# Altium integrated library Cypress USB Low-Speed.IntLib: 40 symbols (part 3 of 3)
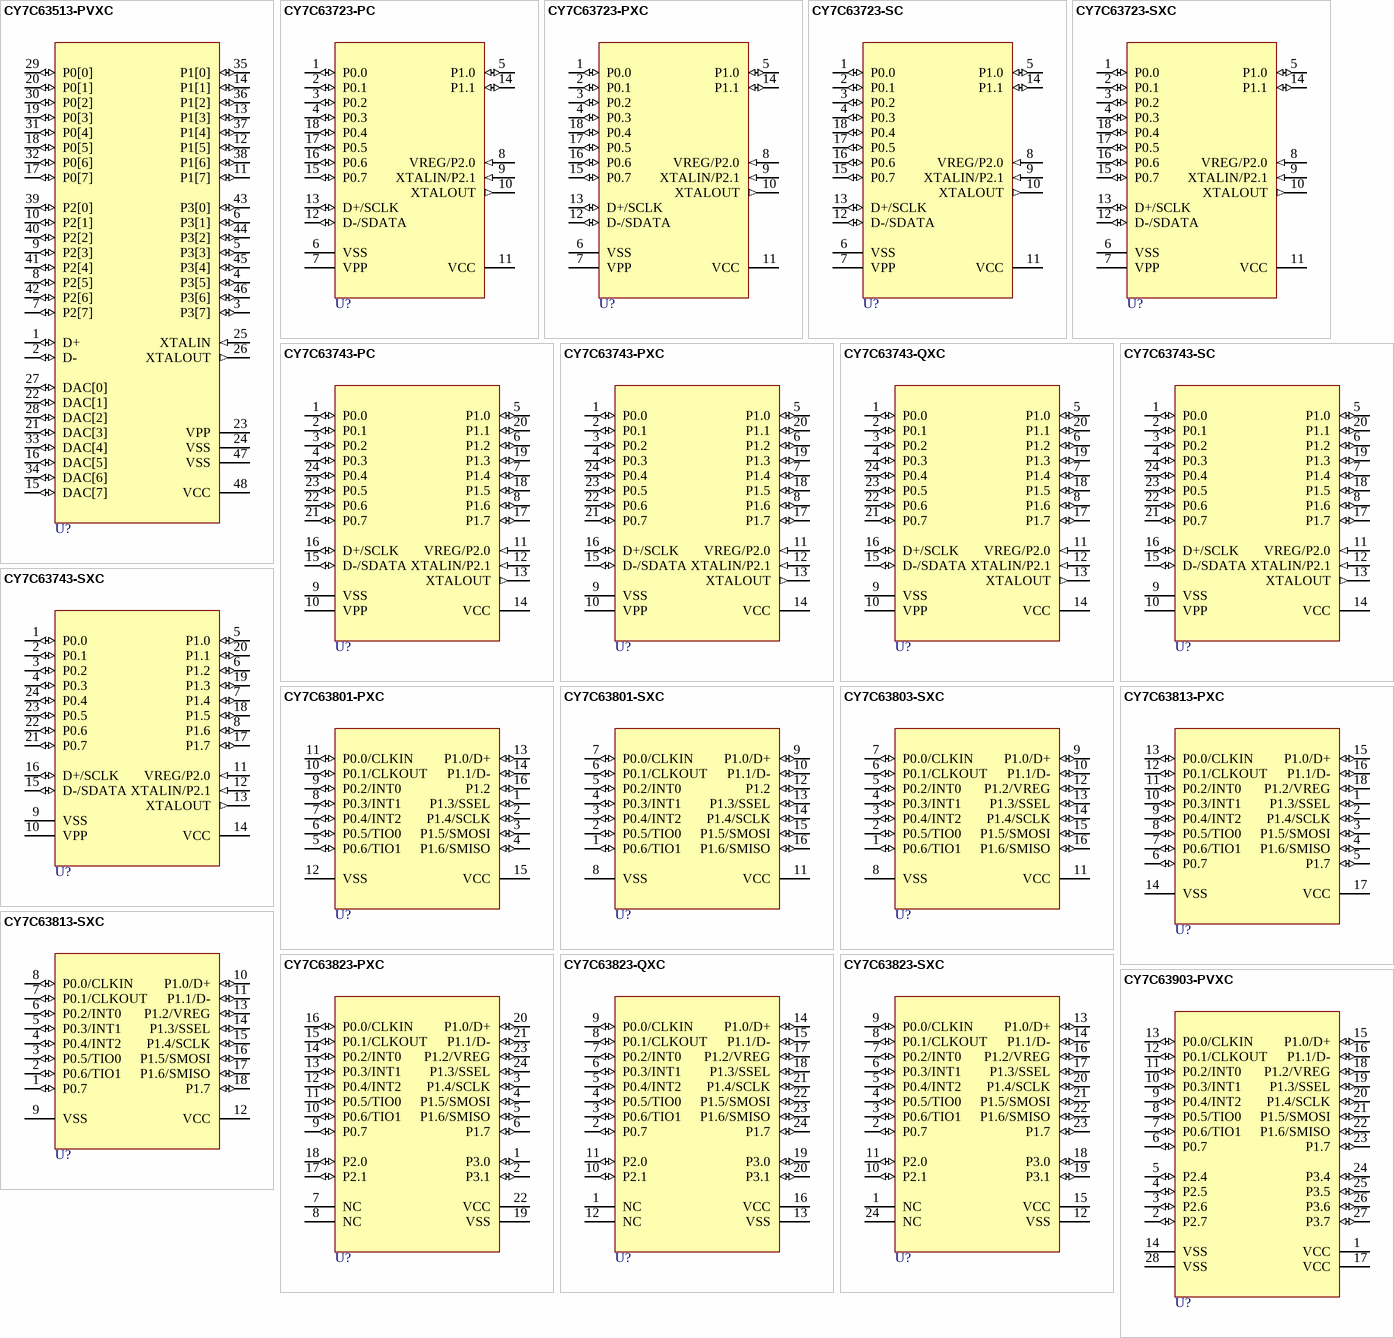
[diagram p4: symbols CY7C63513-PVXC to CY7C63903-PVXC]

## CY7C63743-SXC
designator U?
enCoRe, Low-Speed Combination USB and PS/2 Peripheral Controller, 8KB EPROM, 24-Pin SOIC,Commercial Grade, Pb-free; Published: 6-Oct-2005; LatestRevisionDate: 13-Apr-2006; LatestRevisionNote: IPC-7351 Footprint Added.; DatasheetVersion: rev.B, Sep -2004; PackageVersion: Mar-2005; PackageReference: S13; Publisher: Altium Limited; PackageDescription: 24-Pin Molded Small Outline Integrated Circuit 1.27 mm Pitch; Code_JEDEC: MO-119; ComponentLink1Description: Manufacturer Link; ComponentLink1URL: http://www.cypress.com/; ComponentLink2Description: Datasheet; ComponentLink2URL: http://www.cypress.com/portal/server.pt/gateway/PTARGS_0_2_1524_209_259_43/http%3B/sjapp20.mis.cypress.com%3B7001/publishedcontent/publish/design_resources/datasheets/contents/cy7c637xx_5.pdf
footprint S13_N (SOIC, 24-Leads, Body 15.4x7.5mm, Pitch 1.27mm, IPC Medium Density)
footprint S13_L (SOIC, 24-Leads, Body 15.4x7.5mm, Pitch 1.27mm, IPC High Density)
footprint S13_M (SOIC, 24-Leads, Body 15.4x7.5mm, Pitch 1.27mm, IPC Low Density)
pins: 1 P0.0 (io) "GPIO Port 0 capable of sinking up to 50 mA/pin, or sinking controlled low or high programmable current. Can also source 2 mA current, provide a resistive pull-up, or serve as a high-impedance input. Provides input to Capture Timer A.", 2 P0.1 (io) "GPIO Port 0 capable of sinking up to 50 mA/pin, or sinking controlled low or high programmable current. Can also source 2 mA current, provide a resistive pull-up, or serve as a high-impedance input. Provides input to Capture Timer B.", 3 P0.2 (io) "GPIO Port 0 capable of sinking up to 50 mA/pin, or sinking controlled low or high programmable current. Can also source 2 mA current, provide a resistive pull-up, or serve as a high-impedance input.", 4 P0.3 (io) "GPIO Port 0 capable of sinking up to 50 mA/pin, or sinking controlled low or high programmable current. Can also source 2 mA current, provide a resistive pull-up, or serve as a high-impedance input.", 5 P1.0 (io) "IO Port 1 capable of sinking up to 50 mA/pin, or sinking controlled low or high programmable current. Can also source 2 mA current, provide a resistive pull-up, or serve as a high-impedance input.", 6 P1.2 (io) "IO Port 1 capable of sinking up to 50 mA/pin, or sinking controlled low or high programmable current. Can also source 2 mA current, provide a resistive pull-up, or serve as a high-impedance input.", 7 P1.4 (io) "IO Port 1 capable of sinking up to 50 mA/pin, or sinking controlled low or high programmable current. Can also source 2 mA current, provide a resistive pull-up, or serve as a high-impedance input.", 8 P1.6 (io) "IO Port 1 capable of sinking up to 50 mA/pin, or sinking controlled low or high programmable current. Can also source 2 mA current, provide a resistive pull-up, or serve as a high-impedance input.", 9 VSS (power) "Ground", 10 VPP (power) "Programming voltage supply, ground for normal operation", 11 VREG/P2.0 (in) "Voltage supply for 1.3-kOhm USB pull-up resistor (3.3V nominal). Also serves as P2.0 input.", 12 XTALIN/P2.1 (in) "6-MHz ceramic resonator or external clock input, or P2.1 input", 13 XTALOUT (out) "6-MHz ceramic resonator return pin or internal oscillator output", 14 VCC (power) "Voltage supply", 15 D-/SDATA (io) "USB differential data line or PS/2 data signal", 16 D+/SCLK (io) "USB differential data line or PS/2 clock signal", 17 P1.7 (io) "IO Port 1 capable of sinking up to 50 mA/pin, or sinking controlled low or high programmable current. Can also source 2 mA current, provide a resistive pull-up, or serve as a high-impedance input.", 18 P1.5 (io) "IO Port 1 capable of sinking up to 50 mA/pin, or sinking controlled low or high programmable current. Can also source 2 mA current, provide a resistive pull-up, or serve as a high-impedance input.", 19 P1.3 (io) "IO Port 1 capable of sinking up to 50 mA/pin, or sinking controlled low or high programmable current. Can also source 2 mA current, provide a resistive pull-up, or serve as a high-impedance input.", 20 P1.1 (io) "IO Port 1 capable of sinking up to 50 mA/pin, or sinking controlled low or high programmable current. Can also source 2 mA current, provide a resistive pull-up, or serve as a high-impedance input.", 21 P0.7 (io) "GPIO Port 0 capable of sinking up to 50 mA/pin, or sinking controlled low or high programmable current. Can also source 2 mA current, provide a resistive pull-up, or serve as a high-impedance input.", 22 P0.6 (io) "GPIO Port 0 capable of sinking up to 50 mA/pin, or sinking controlled low or high programmable current. Can also source 2 mA current, provide a resistive pull-up, or serve as a high-impedance input.", 23 P0.5 (io) "GPIO Port 0 capable of sinking up to 50 mA/pin, or sinking controlled low or high programmable current. Can also source 2 mA current, provide a resistive pull-up, or serve as a high-impedance input.", 24 P0.4 (io) "GPIO Port 0 capable of sinking up to 50 mA/pin, or sinking controlled low or high programmable current. Can also source 2 mA current, provide a resistive pull-up, or serve as a high-impedance input."

## CY7C63801-PXC
designator U?
enCoRe II, Low-Speed USB Peripheral Controller, 4KB FLASH, 16-Pin PDIP, Commercial Grade, Pb-free; Published: 6-Oct-2005; DatasheetVersion: rev.D, Mar-2005; PackageVersion: Mar-2005; PackageReference: P1; Publisher: Altium Limited; PackageDescription: DIP, Molded, 16-Pin, Row Spacing 7.62 mm, Pitch 2.54 mm; ComponentLink1Description: Manufacturer Link; ComponentLink1URL: http://www.cypress.com/; ComponentLink2Description: Datasheet; ComponentLink2URL: http://www.cypress.com/portal/server.pt/gateway/PTARGS_0_2_1524_209_259_43/http%3B/sjapp20.mis.cypress.com%3B7001/publishedcontent/publish/design_resources/datasheets/contents/cy7c638xx_5.pdf
footprint P1 (DIP, 16-Leads, Row Spacing 7.62mm, Pitch 2.54mm, Body 19.18x6.35mm)
pins: 1 P1.3/SSEL (io) "GPIO Port 1 bit 3 - Configured individually. Alternate function is SSEL signal of the SPI bus TTL voltage thresholds", 2 P1.4/SCLK (io) "GPIO Port 1 bit 4 - Configured individually. Alternate function is SCLK signal of the SPI bus TTL voltage thresholds", 3 P1.5/SMOSI (io) "GPIO Port 1 bit 5 - Configured individually. Alternate function is SMOSI signal of the SPI bus TTL voltage thresholds", 4 P1.6/SMISO (io) "GPIO Port 1 bit 6 - Configured individually. Alternate function is SMISO signal of the SPI bus TTL voltage thresholds", 5 P0.6/TIO1 (io) "GPIO port 0 bit 6 - Configured individually Alternate function Timer capture inputs or Timer output TIO1", 6 P0.5/TIO0 (io) "GPIO port 0 bit 5 - Configured individually Alternate function Timer capture inputs or Timer output TIO0", 7 P0.4/INT2 (io) "GPIO port 0 bit 4 - Configured individually Optional rising edge interrupt INT2", 8 P0.3/INT1 (io) "GPIO port 0 bit 3 - Configured individually Optional rising edge interrupt INT1", 9 P0.2/INT0 (io) "GPIO port 0 bit 2 - Configured individually Optional rising edge interrupt INT0", 10 P0.1/CLKOUT (io) "GPIO Port 0 bit 1 - Configured individually. Oscillator output when configured as Clock Out.", 11 P0.0/CLKIN (io) "GPIO Port 0 bit 0 - Configured individually. Oscillator input when configured as Clock In.", 12 VSS (power) "Ground", 13 P1.0/D+ (io) "GPIO Port 1 bit 0 / USB D+", 14 P1.1/D- (io) "GPIO Port 1 bit 1 / USB D-", 15 VCC (power) "Power", 16 P1.2 (io) "GPIO Port 1 bit 2 - Configured individually."

## CY7C63801-SXC
designator U?
enCoRe II, Low-Speed USB Peripheral Controller, 4KB FLASH, 16-Pin SOIC, Commercial Grade, Pb-free; Published: 6-Oct-2005; LatestRevisionDate: 13-Apr-2006; LatestRevisionNote: IPC-7351 Footprint Added.; DatasheetVersion: rev.D, Mar-2005; PackageVersion: Mar-2005; PackageReference: S16.15; Publisher: Altium Limited; PackageDescription: 16-Pin Small Outline Integrated Circuit 1.27 mm Pitch; Code_JEDEC: MS-012; ComponentLink1Description: Manufacturer Link; ComponentLink1URL: http://www.cypress.com/; ComponentLink2Description: Datasheet; ComponentLink2URL: http://www.cypress.com/portal/server.pt/gateway/PTARGS_0_2_1524_209_259_43/http%3B/sjapp20.mis.cypress.com%3B7001/publishedcontent/publish/design_resources/datasheets/contents/cy7c638xx_5.pdf
footprint S16.15_N (SOIC, 16-Leads, Body 9.9x3.9mm, Pitch 1.27mm, IPC Medium Density)
footprint S16.15_L (SOIC, 16-Leads, Body 9.9x3.9mm, Pitch 1.27mm, IPC High Density)
footprint S16.15_M (SOIC, 16-Leads, Body 9.9x3.9mm, Pitch 1.27mm, IPC Low Density)
pins: 1 P0.6/TIO1 (io) "GPIO port 0 bit 6 - Configured individually Alternate function Timer capture inputs or Timer output TIO1", 2 P0.5/TIO0 (io) "GPIO port 0 bit 5 - Configured individually Alternate function Timer capture inputs or Timer output TIO0", 3 P0.4/INT2 (io) "GPIO port 0 bit 4 - Configured individually Optional rising edge interrupt INT2", 4 P0.3/INT1 (io) "GPIO port 0 bit 3 - Configured individually Optional rising edge interrupt INT1", 5 P0.2/INT0 (io) "GPIO port 0 bit 2 - Configured individually Optional rising edge interrupt INT0", 6 P0.1/CLKOUT (io) "GPIO Port 0 bit 1 - Configured individually. Oscillator output when configured as Clock Out.", 7 P0.0/CLKIN (io) "GPIO Port 0 bit 0 - Configured individually. Oscillator input when configured as Clock In.", 8 VSS (power) "Ground", 9 P1.0/D+ (io) "GPIO Port 1 bit 0 / USB D+", 10 P1.1/D- (io) "GPIO Port 1 bit 1 / USB D-", 11 VCC (power) "Power", 12 P1.2 (io) "GPIO Port 1 bit 2 - Configured individually.", 13 P1.3/SSEL (io) "GPIO Port 1 bit 3 - Configured individually. Alternate function is SSEL signal of the SPI bus TTL voltage thresholds", 14 P1.4/SCLK (io) "GPIO Port 1 bit 4 - Configured individually. Alternate function is SCLK signal of the SPI bus TTL voltage thresholds", 15 P1.5/SMOSI (io) "GPIO Port 1 bit 5 - Configured individually. Alternate function is SMOSI signal of the SPI bus TTL voltage thresholds", 16 P1.6/SMISO (io) "GPIO Port 1 bit 6 - Configured individually. Alternate function is SMISO signal of the SPI bus TTL voltage thresholds"

## CY7C63803-SXC
designator U?
enCoRe II, Low-Speed USB Peripheral Controller, 8KB FLASH, 16-Pin SOIC, Commercial Grade, Pb-free; Published: 6-Oct-2005; LatestRevisionDate: 13-Apr-2006; LatestRevisionNote: IPC-7351 Footprint Added.; DatasheetVersion: rev.D, Mar-2005; PackageVersion: Mar-2005; PackageReference: S16.15; Publisher: Altium Limited; PackageDescription: 16-Pin Small Outline Integrated Circuit 1.27 mm Pitch; Code_JEDEC: MS-012; ComponentLink1Description: Manufacturer Link; ComponentLink1URL: http://www.cypress.com/; ComponentLink2Description: Datasheet; ComponentLink2URL: http://www.cypress.com/portal/server.pt/gateway/PTARGS_0_2_1524_209_259_43/http%3B/sjapp20.mis.cypress.com%3B7001/publishedcontent/publish/design_resources/datasheets/contents/cy7c638xx_5.pdf
footprint S16.15_N (SOIC, 16-Leads, Body 9.9x3.9mm, Pitch 1.27mm, IPC Medium Density)
footprint S16.15_L (SOIC, 16-Leads, Body 9.9x3.9mm, Pitch 1.27mm, IPC High Density)
footprint S16.15_M (SOIC, 16-Leads, Body 9.9x3.9mm, Pitch 1.27mm, IPC Low Density)
pins: 1 P0.6/TIO1 (io) "GPIO port 0 bit 6 - Configured individually Alternate function Timer capture inputs or Timer output TIO1", 2 P0.5/TIO0 (io) "GPIO port 0 bit 5 - Configured individually Alternate function Timer capture inputs or Timer output TIO0", 3 P0.4/INT2 (io) "GPIO port 0 bit 4 - Configured individually Optional rising edge interrupt INT2", 4 P0.3/INT1 (io) "GPIO port 0 bit 3 - Configured individually Optional rising edge interrupt INT1", 5 P0.2/INT0 (io) "GPIO port 0 bit 2 - Configured individually Optional rising edge interrupt INT0", 6 P0.1/CLKOUT (io) "GPIO Port 0 bit 1 - Configured individually. Oscillator output when configured as Clock Out.", 7 P0.0/CLKIN (io) "GPIO Port 0 bit 0 - Configured individually. Oscillator input when configured as Clock In.", 8 VSS (power) "Ground", 9 P1.0/D+ (io) "GPIO Port 1 bit 0 / USB D+", 10 P1.1/D- (io) "GPIO Port 1 bit 1 / USB D-", 11 VCC (power) "Power", 12 P1.2/VREG (io) "GPIO Port 1 bit 2 - Configured individually. 3.3V if regulator is enabled.", 13 P1.3/SSEL (io) "GPIO Port 1 bit 3 - Configured individually. Alternate function is SSEL signal of the SPI bus TTL voltage thresholds", 14 P1.4/SCLK (io) "GPIO Port 1 bit 4 - Configured individually. Alternate function is SCLK signal of the SPI bus TTL voltage thresholds", 15 P1.5/SMOSI (io) "GPIO Port 1 bit 5 - Configured individually. Alternate function is SMOSI signal of the SPI bus TTL voltage thresholds", 16 P1.6/SMISO (io) "GPIO Port 1 bit 6 - Configured individually. Alternate function is SMISO signal of the SPI bus TTL voltage thresholds"

## CY7C63813-PXC
designator U?
enCoRe II, Low-Speed USB Peripheral Controller, 8KB FLASH, 18-Pin PDIP, Commercial Grade, Pb-free; Published: 6-Oct-2005; DatasheetVersion: rev.D, Mar-2005; PackageVersion: Mar-2005; PackageReference: P3; Publisher: Altium Limited; PackageDescription: DIP, Molded, 18-Pin, Row Spacing 7.62 mm, Pitch 2.54 mm; ComponentLink1Description: Manufacturer Link; ComponentLink1URL: http://www.cypress.com/; ComponentLink2Description: Datasheet; ComponentLink2URL: http://www.cypress.com/portal/server.pt/gateway/PTARGS_0_2_1524_209_259_43/http%3B/sjapp20.mis.cypress.com%3B7001/publishedcontent/publish/design_resources/datasheets/contents/cy7c638xx_5.pdf
footprint P3 (DIP, 18-Leads, Row Spacing 7.62mm, Pitch 2.54mm, Body 22.73x6.48mm)
pins: 1 P1.3/SSEL (io) "GPIO Port 1 bit 3 - Configured individually. Alternate function is SSEL signal of the SPI bus TTL voltage thresholds", 2 P1.4/SCLK (io) "GPIO Port 1 bit 4 - Configured individually. Alternate function is SCLK signal of the SPI bus TTL voltage thresholds", 3 P1.5/SMOSI (io) "GPIO Port 1 bit 5 - Configured individually. Alternate function is SMOSI signal of the SPI bus TTL voltage thresholds", 4 P1.6/SMISO (io) "GPIO Port 1 bit 6 - Configured individually. Alternate function is SMISO signal of the SPI bus TTL voltage thresholds", 5 P1.7 (io) "GPIO Port 1 bit 7 - Configured individually. TTL voltage threshold.", 6 P0.7 (io) "GPIO port 0 bit 7 - Configured individually", 7 P0.6/TIO1 (io) "GPIO port 0 bit 6 - Configured individually Alternate function Timer capture inputs or Timer output TIO1", 8 P0.5/TIO0 (io) "GPIO port 0 bit 5 - Configured individually Alternate function Timer capture inputs or Timer output TIO0", 9 P0.4/INT2 (io) "GPIO port 0 bit 4 - Configured individually Optional rising edge interrupt INT2", 10 P0.3/INT1 (io) "GPIO port 0 bit 3 - Configured individually Optional rising edge interrupt INT1", 11 P0.2/INT0 (io) "GPIO port 0 bit 2 - Configured individually Optional rising edge interrupt INT0", 12 P0.1/CLKOUT (io) "GPIO Port 0 bit 1 - Configured individually. Oscillator output when configured as Clock Out.", 13 P0.0/CLKIN (io) "GPIO Port 0 bit 0 - Configured individually. Oscillator input when configured as Clock In.", 14 VSS (power) "Ground", 15 P1.0/D+ (io) "GPIO Port 1 bit 0 / USB D+", 16 P1.1/D- (io) "GPIO Port 1 bit 1 / USB D-", 17 VCC (power) "Power", 18 P1.2/VREG (io) "GPIO Port 1 bit 2 - Configured individually. 3.3V if regulator is enabled. (The 3.3V regulator is not available in the CY7C63310 and CY7C63801.)"

## CY7C63813-SXC
designator U?
enCoRe II, Low-Speed USB Peripheral Controller, 8KB FLASH, 18-Pin SOIC, Commercial Grade, Pb-free; Published: 6-Oct-2005; LatestRevisionDate: 13-Apr-2006; LatestRevisionNote: IPC-7351 Footprint Added.; DatasheetVersion: rev.D, Mar-2005; PackageVersion: Mar-2005; PackageReference: S3; Publisher: Altium Limited; PackageDescription: 18-Pin Small Outline Integrated Circuit 1.27 mm Pitch; Code_JEDEC: MO-119; ComponentLink1Description: Manufacturer Link; ComponentLink1URL: http://www.cypress.com/; ComponentLink2Description: Datasheet; ComponentLink2URL: http://www.cypress.com/portal/server.pt/gateway/PTARGS_0_2_1524_209_259_43/http%3B/sjapp20.mis.cypress.com%3B7001/publishedcontent/publish/design_resources/datasheets/contents/cy7c638xx_5.pdf
footprint S3_N (SOIC, 18-Leads, Body 11.6x7.5mm, Pitch 1.27mm, IPC Medium Density)
footprint S3_L (SOIC, 18-Leads, Body 11.6x7.5mm, Pitch 1.27mm, IPC High Density)
footprint S3_M (SOIC, 18-Leads, Body 11.6x7.5mm, Pitch 1.27mm, IPC Low Density)
pins: 1 P0.7 (io) "GPIO port 0 bit 7 - Configured individually", 2 P0.6/TIO1 (io) "GPIO port 0 bit 6 - Configured individually Alternate function Timer capture inputs or Timer output TIO1", 3 P0.5/TIO0 (io) "GPIO port 0 bit 5 - Configured individually Alternate function Timer capture inputs or Timer output TIO0", 4 P0.4/INT2 (io) "GPIO port 0 bit 4 - Configured individually Optional rising edge interrupt INT2", 5 P0.3/INT1 (io) "GPIO port 0 bit 3 - Configured individually Optional rising edge interrupt INT1", 6 P0.2/INT0 (io) "GPIO port 0 bit 2 - Configured individually Optional rising edge interrupt INT0", 7 P0.1/CLKOUT (io) "GPIO Port 0 bit 1 - Configured individually. Oscillator output when configured as Clock Out.", 8 P0.0/CLKIN (io) "GPIO Port 0 bit 0 - Configured individually. Oscillator input when configured as Clock In.", 9 VSS (power) "Ground", 10 P1.0/D+ (io) "GPIO Port 1 bit 0 / USB D+", 11 P1.1/D- (io) "GPIO Port 1 bit 1 / USB D-", 12 VCC (power) "Power", 13 P1.2/VREG (io) "GPIO Port 1 bit 2 - Configured individually. 3.3V if regulator is enabled.", 14 P1.3/SSEL (io) "GPIO Port 1 bit 3 - Configured individually. Alternate function is SSEL signal of the SPI bus TTL voltage thresholds", 15 P1.4/SCLK (io) "GPIO Port 1 bit 4 - Configured individually. Alternate function is SCLK signal of the SPI bus TTL voltage thresholds", 16 P1.5/SMOSI (io) "GPIO Port 1 bit 5 - Configured individually. Alternate function is SMOSI signal of the SPI bus TTL voltage thresholds", 17 P1.6/SMISO (io) "GPIO Port 1 bit 6 - Configured individually. Alternate function is SMISO signal of the SPI bus TTL voltage thresholds", 18 P1.7 (io) "GPIO Port 1 bit 7 - Configured individually. TTL voltage threshold."

## CY7C63823-PXC
designator U?
enCoRe II, Low-Speed USB Peripheral Controller, 8KB FLASH, 24-Pin PDIP, Commercial Grade, Pb-free; Published: 6-Oct-2005; DatasheetVersion: rev.D, Mar-2005; PackageVersion: Mar-2005; PackageReference: P13; Publisher: Altium Limited; PackageDescription: DIP, Molded, 24-Pin, Row Spacing 7.62 mm, Pitch 2.54 mm; ComponentLink1Description: Manufacturer Link; ComponentLink1URL: http://www.cypress.com/; ComponentLink2Description: Datasheet; ComponentLink2URL: http://www.cypress.com/portal/server.pt/gateway/PTARGS_0_2_1524_209_259_43/http%3B/sjapp20.mis.cypress.com%3B7001/publishedcontent/publish/design_resources/datasheets/contents/cy7c638xx_5.pdf
footprint P13 (DIP, 24-Leads, Row Spacing 7.62mm, Pitch 2.54mm, Body 31.75x6.6mm)
pins: 1 P3.0 (io) "GPIO Port 3 bit 0", 2 P3.1 (io) "GPIO Port 3 bit 1", 3 P1.4/SCLK (io) "GPIO Port 1 bit 4 - Configured individually. Alternate function is SCLK signal of the SPI bus TTL voltage thresholds", 4 P1.5/SMOSI (io) "GPIO Port 1 bit 5 - Configured individually. Alternate function is SMOSI signal of the SPI bus TTL voltage thresholds", 5 P1.6/SMISO (io) "GPIO Port 1 bit 6 - Configured individually. Alternate function is SMISO signal of the SPI bus TTL voltage thresholds", 6 P1.7 (io) "GPIO Port 1 bit 7 - Configured individually. TTL voltage threshold.", 7 NC "No connect", 8 NC "No connect", 9 P0.7 (io) "GPIO port 0 bit 7 - Configured individually", 10 P0.6/TIO1 (io) "GPIO port 0 bit 6 - Configured individually Alternate function Timer capture inputs or Timer output TIO1", 11 P0.5/TIO0 (io) "GPIO port 0 bit 5 - Configured individually Alternate function Timer capture inputs or Timer output TIO0", 12 P0.4/INT2 (io) "GPIO port 0 bit 4 - Configured individually Optional rising edge interrupt INT2", 13 P0.3/INT1 (io) "GPIO port 0 bit 3 - Configured individually Optional rising edge interrupt INT1", 14 P0.2/INT0 (io) "GPIO port 0 bit 2 - Configured individually Optional rising edge interrupt INT0", 15 P0.1/CLKOUT (io) "GPIO Port 0 bit 1 - Configured individually. Oscillator output when configured as Clock Out.", 16 P0.0/CLKIN (io) "GPIO Port 0 bit 0 - Configured individually. Oscillator input when configured as Clock In.", 17 P2.1 (io) "GPIO Port 2 bit 1", 18 P2.0 (io) "GPIO Port 2 bit 0", 19 VSS (power) "Ground", 20 P1.0/D+ (io) "GPIO Port 1 bit 0 / USB D+", 21 P1.1/D- (io) "GPIO Port 1 bit 1 / USB D-", 22 VCC (power) "Power", 23 P1.2/VREG (io) "GPIO Port 1 bit 2 - Configured individually. 3.3V if regulator is enabled.", 24 P1.3/SSEL (io) "GPIO Port 1 bit 3 - Configured individually. Alternate function is SSEL signal of the SPI bus TTL voltage thresholds"

## CY7C63823-QXC
designator U?
enCoRe II, Low-Speed USB Peripheral Controller, 8KB FLASH, 24-Pin QSOP, Commercial Grade, Pb-free; Published: 6-Oct-2005; LatestRevisionDate: 20-Nov-2009; LatestRevisionNote: IPC-7351 Footprint Added.; DatasheetVersion: rev.D, Mar-2005; PackageVersion: Mar-2005; PackageReference: O241; Publisher: Altium Limited; PackageDescription: 24-Pin Small Outline Package 0.635 mm Pitch; ComponentLink1Description: Manufacturer Link; ComponentLink1URL: http://www.cypress.com/; ComponentLink2Description: Datasheet; ComponentLink2URL: http://www.cypress.com/portal/server.pt/gateway/PTARGS_0_2_1524_209_259_43/http%3B/sjapp20.mis.cypress.com%3B7001/publishedcontent/publish/design_resources/datasheets/contents/cy7c638xx_5.pdf
footprint O241_N (SOP, 24-Leads, Body 8.6x3.9mm, Pitch 0.635mm, IPC Medium Density)
footprint O241_L (SOP, 24-Leads, Body 8.6x3.9mm, Pitch 0.635mm, IPC High Density)
footprint O241_M (SOP, 24-Leads, Body 8.6x3.9mm, Pitch 0.635mm, IPC Low Density)
pins: 1 NC "No connect", 2 P0.7 (io) "GPIO port 0 bit 7 - Configured individually", 3 P0.6/TIO1 (io) "GPIO port 0 bit 6 - Configured individually Alternate function Timer capture inputs or Timer output TIO1", 4 P0.5/TIO0 (io) "GPIO port 0 bit 5 - Configured individually Alternate function Timer capture inputs or Timer output TIO0", 5 P0.4/INT2 (io) "GPIO port 0 bit 4 - Configured individually Optional rising edge interrupt INT2", 6 P0.3/INT1 (io) "GPIO port 0 bit 3 - Configured individually Optional rising edge interrupt INT1", 7 P0.2/INT0 (io) "GPIO port 0 bit 2 - Configured individually Optional rising edge interrupt INT0", 8 P0.1/CLKOUT (io) "GPIO Port 0 bit 1 - Configured individually. Oscillator output when configured as Clock Out.", 9 P0.0/CLKIN (io) "GPIO Port 0 bit 0 - Configured individually. Oscillator input when configured as Clock In.", 10 P2.1 (io) "GPIO Port 2 bit 1", 11 P2.0 (io) "GPIO Port 2 bit 0", 12 NC "No connect", 13 VSS (power) "Ground", 14 P1.0/D+ (io) "GPIO Port 1 bit 0 / USB D+", 15 P1.1/D- (io) "GPIO Port 1 bit 1 / USB D-", 16 VCC (power) "Power", 17 P1.2/VREG (io) "GPIO Port 1 bit 2 - Configured individually. 3.3V if regulator is enabled.", 18 P1.3/SSEL (io) "GPIO Port 1 bit 3 - Configured individually. Alternate function is SSEL signal of the SPI bus TTL voltage thresholds", 19 P3.0 (io) "GPIO Port 3 bit 0", 20 P3.1 (io) "GPIO Port 3 bit 1", 21 P1.4/SCLK (io) "GPIO Port 1 bit 4 - Configured individually. Alternate function is SCLK signal of the SPI bus TTL voltage thresholds", 22 P1.5/SMOSI (io) "GPIO Port 1 bit 5 - Configured individually. Alternate function is SMOSI signal of the SPI bus TTL voltage thresholds", 23 P1.6/SMISO (io) "GPIO Port 1 bit 6 - Configured individually. Alternate function is SMISO signal of the SPI bus TTL voltage thresholds", 24 P1.7 (io) "GPIO Port 1 bit 7 - Configured individually. TTL voltage threshold."

## CY7C63823-SXC
designator U?
enCoRe II, Low-Speed USB Peripheral Controller, 8KB FLASH, 24-Pin SOIC,Commercial Grade, Pb-free; Published: 6-Oct-2005; LatestRevisionDate: 13-Apr-2006; LatestRevisionNote: IPC-7351 Footprint Added.; DatasheetVersion: rev.D, Mar-2005; PackageVersion: Mar-2005; PackageReference: S13; Publisher: Altium Limited; PackageDescription: 24-Pin Molded Small Outline Integrated Circuit 1.27 mm Pitch; Code_JEDEC: MO-119; ComponentLink1Description: Manufacturer Link; ComponentLink1URL: http://www.cypress.com/; ComponentLink2Description: Datasheet; ComponentLink2URL: http://www.cypress.com/portal/server.pt/gateway/PTARGS_0_2_1524_209_259_43/http%3B/sjapp20.mis.cypress.com%3B7001/publishedcontent/publish/design_resources/datasheets/contents/cy7c638xx_5.pdf
footprint S13_N (SOIC, 24-Leads, Body 15.4x7.5mm, Pitch 1.27mm, IPC Medium Density)
footprint S13_L (SOIC, 24-Leads, Body 15.4x7.5mm, Pitch 1.27mm, IPC High Density)
footprint S13_M (SOIC, 24-Leads, Body 15.4x7.5mm, Pitch 1.27mm, IPC Low Density)
pins: 1 NC "No connect", 2 P0.7 (io) "GPIO port 0 bit 7 - Configured individually", 3 P0.6/TIO1 (io) "GPIO port 0 bit 6 - Configured individually Alternate function Timer capture inputs or Timer output TIO1", 4 P0.5/TIO0 (io) "GPIO port 0 bit 5 - Configured individually Alternate function Timer capture inputs or Timer output TIO0", 5 P0.4/INT2 (io) "GPIO port 0 bit 4 - Configured individually Optional rising edge interrupt INT2", 6 P0.3/INT1 (io) "GPIO port 0 bit 3 - Configured individually Optional rising edge interrupt INT1", 7 P0.2/INT0 (io) "GPIO port 0 bit 2 - Configured individually Optional rising edge interrupt INT0", 8 P0.1/CLKOUT (io) "GPIO Port 0 bit 1 - Configured individually. Oscillator output when configured as Clock Out.", 9 P0.0/CLKIN (io) "GPIO Port 0 bit 0 - Configured individually. Oscillator input when configured as Clock In.", 10 P2.1 (io) "GPIO Port 2 bit 1", 11 P2.0 (io) "GPIO Port 2 bit 0", 12 VSS (power) "Ground", 13 P1.0/D+ (io) "GPIO Port 1 bit 0 / USB D+", 14 P1.1/D- (io) "GPIO Port 1 bit 1 / USB D-", 15 VCC (power) "Power", 16 P1.2/VREG (io) "GPIO Port 1 bit 2 - Configured individually. 3.3V if regulator is enabled.", 17 P1.3/SSEL (io) "GPIO Port 1 bit 3 - Configured individually. Alternate function is SSEL signal of the SPI bus TTL voltage thresholds", 18 P3.0 (io) "GPIO Port 3 bit 0", 19 P3.1 (io) "GPIO Port 3 bit 1", 20 P1.4/SCLK (io) "GPIO Port 1 bit 4 - Configured individually. Alternate function is SCLK signal of the SPI bus TTL voltage thresholds", 21 P1.5/SMOSI (io) "GPIO Port 1 bit 5 - Configured individually. Alternate function is SMOSI signal of the SPI bus TTL voltage thresholds", 22 P1.6/SMISO (io) "GPIO Port 1 bit 6 - Configured individually. Alternate function is SMISO signal of the SPI bus TTL voltage thresholds", 23 P1.7 (io) "GPIO Port 1 bit 7 - Configured individually. TTL voltage threshold.", 24 NC "No connect"

## CY7C63903-PVXC
designator U?
enCoRe II, Low-Speed USB Peripheral Controller, 8KB FLASH, 28-Pin SSOP, Commercial Grade, Pb-free; Published: 6-Oct-2005; LatestRevisionDate: 20-Nov-2009; LatestRevisionNote: IPC-7351 Footprint Added.; DatasheetVersion: rev.D, Mar-2005; PackageVersion: Mar-2005; PackageReference: O28; Publisher: Altium Limited; PackageDescription: 28-Pin Small Outline Package 0.65 mm Pitch; Code_JEDEC: MO-150-AH; Code_IPC: SOP65P780-28; ComponentLink1Description: Manufacturer Link; ComponentLink1URL: http://www.cypress.com/; ComponentLink2Description: Datasheet; ComponentLink2URL: http://www.cypress.com/portal/server.pt/gateway/PTARGS_0_2_1524_209_259_43/http%3B/sjapp20.mis.cypress.com%3B7001/publishedcontent/publish/design_resources/datasheets/contents/cy7c639xx_5.pdf
footprint O28_N (SOP, 28-Leads, Body 10.2x5.3mm, Pitch 0.65mm, IPC Medium Density)
footprint O28_L (SOP, 28-Leads, Body 10.2x5.3mm, Pitch 0.65mm, IPC High Density)
footprint O28_M (SOP, 28-Leads, Body 10.2x5.3mm, Pitch 0.65mm, IPC Low Density)
pins: 1 VCC (power) "Power", 2 P2.7 (io) "GPIO Port 2 bit 7 - Configured as a group (byte)", 3 P2.6 (io) "GPIO Port 2 bit 6 - Configured as a group (byte)", 4 P2.5 (io) "GPIO Port 2 bit 5 - Configured as a group (byte)", 5 P2.4 (io) "GPIO Port 2 bit 4 - Configured as a group (byte)", 6 P0.7 (io) "GPIO port 0 bit 7 - Configured individually", 7 P0.6/TIO1 (io) "GPIO port 0 bit 6 - Configured individually Alternate function Timer capture inputs or Timer output TIO1", 8 P0.5/TIO0 (io) "GPIO port 0 bit 5 - Configured individually Alternate function Timer capture inputs or Timer output TIO0", 9 P0.4/INT2 (io) "GPIO port 0 bit 4 - Configured individually Optional rising edge interrupt INT2", 10 P0.3/INT1 (io) "GPIO port 0 bit 3 - Configured individually Optional rising edge interrupt INT1", 11 P0.2/INT0 (io) "GPIO port 0 bit 2 - Configured individually Optional rising edge interrupt INT0", 12 P0.1/CLKOUT (io) "GPIO Port 0 bit 1 - Configured individually. Optional Clock Out when external crystal oscillator is disabled or crystal output drive when external crystal oscillator is enabled.", 13 P0.0/CLKIN (io) "GPIO Port 0 bit 0 - Configured individually. Optional Clock In when external crystal oscillator is disabled or crystal input when external crystal oscillator is enabled.", 14 VSS (power) "Ground", 15 P1.0/D+ (io) "GPIO Port 1 bit 0 / USB D+", 16 P1.1/D- (io) "GPIO Port 1 bit 1 / USB D-", 17 VCC (power) "Power", 18 P1.2/VREG (io) "GPIO Port 1 bit 2 - Configured individually. 3.3V if regulator is enabled.", 19 P1.3/SSEL (io) "GPIO Port 1 bit 3 - Configured individually. Alternate function is SSEL signal of the SPI bus TTL voltage thresholds", 20 P1.4/SCLK (io) "GPIO Port 1 bit 4 - Configured individually. Alternate function is SCLK signal of the SPI bus TTL voltage thresholds", 21 P1.5/SMOSI (io) "GPIO Port 1 bit 5 - Configured individually. Alternate function is SMOSI signal of the SPI bus TTL voltage thresholds", 22 P1.6/SMISO (io) "GPIO Port 1 bit 6 - Configured individually. Alternate function is SMISO signal of the SPI bus TTL voltage thresholds", 23 P1.7 (io) "GPIO Port 1 bit 7 - Configured individually. TTL voltage threshold.", 24 P3.4 (io) "GPIO Port 3 bit 4 - Configured as a group (byte)", 25 P3.5 (io) "GPIO Port 3 bit 5 - Configured as a group (byte)", 26 P3.6 (io) "GPIO Port 3 bit 6 - Configured as a group (byte)", 27 P3.7 (io) "GPIO Port 3 bit 7 - Configured as a group (byte)", 28 VSS (power) "Ground"

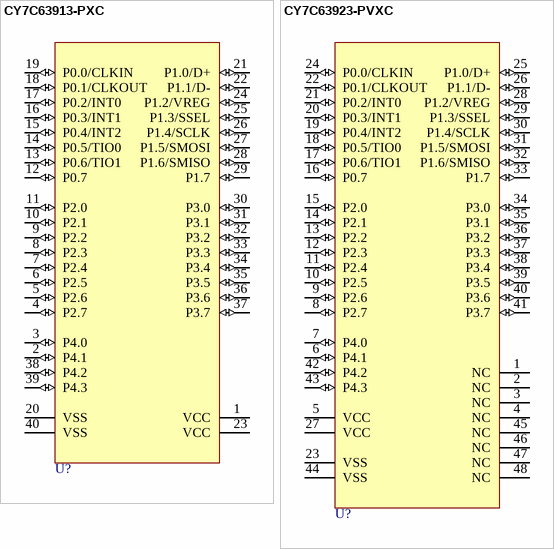
[diagram p2: symbols CY7C63913-PXC to CY7C63923-PVXC]

## CY7C63913-PXC
designator U?
enCoRe II, Low-Speed USB Peripheral Controller, 8KB FLASH, 40-Pin PDIP, Commercial Grade, Pb-free; Published: 6-Oct-2005; DatasheetVersion: rev.D, Mar-2005; PackageVersion: Mar-2005; PackageReference: P17; Publisher: Altium Limited; PackageDescription: DIP, Molded, 40-Pin, Row Spacing 15.24 mm, Pitch 2.54 mm; ComponentLink1Description: Manufacturer Link; ComponentLink1URL: http://www.cypress.com/; ComponentLink2Description: Datasheet; ComponentLink2URL: http://www.cypress.com/portal/server.pt/gateway/PTARGS_0_2_1524_209_259_43/http%3B/sjapp20.mis.cypress.com%3B7001/publishedcontent/publish/design_resources/datasheets/contents/cy7c639xx_5.pdf
footprint P17 (DIP, 40-Leads, Row Spacing 15.24mm, Pitch 2.54mm, Body 52.2x13.72mm)
pins: 1 VCC (power) "Power", 2 P4.1 (io) "GPIO Port 4 bit 1 - Configured as a group (nibble)", 3 P4.0 (io) "GPIO Port 4 bit 0 - Configured as a group (nibble)", 4 P2.7 (io) "GPIO Port 2 bit 7 - Configured as a group (byte)", 5 P2.6 (io) "GPIO Port 2 bit 6 - Configured as a group (byte)", 6 P2.5 (io) "GPIO Port 2 bit 5 - Configured as a group (byte)", 7 P2.4 (io) "GPIO Port 2 bit 4 - Configured as a group (byte)", 8 P2.3 (io) "GPIO Port 2 bit 3 - Configured as a group (byte)", 9 P2.2 (io) "GPIO Port 2 bit 2 - Configured as a group (byte)", 10 P2.1 (io) "GPIO Port 2 bit 1 - Configured as a group (byte)", 11 P2.0 (io) "GPIO Port 2 bit 0 - Configured as a group (byte)", 12 P0.7 (io) "GPIO port 0 bit 7 - Configured individually", 13 P0.6/TIO1 (io) "GPIO port 0 bit 6 - Configured individually Alternate function Timer capture inputs or Timer output TIO1", 14 P0.5/TIO0 (io) "GPIO port 0 bit 5 - Configured individually Alternate function Timer capture inputs or Timer output TIO0", 15 P0.4/INT2 (io) "GPIO port 0 bit 4 - Configured individually Optional rising edge interrupt INT2", 16 P0.3/INT1 (io) "GPIO port 0 bit 3 - Configured individually Optional rising edge interrupt INT1", 17 P0.2/INT0 (io) "GPIO port 0 bit 2 - Configured individually Optional rising edge interrupt INT0", 18 P0.1/CLKOUT (io) "GPIO Port 0 bit 1 - Configured individually. Optional Clock Out when external crystal oscillator is disabled or crystal output drive when external crystal oscillator is enabled.", 19 P0.0/CLKIN (io) "GPIO Port 0 bit 0 - Configured individually. Optional Clock In when external crystal oscillator is disabled or crystal input when external crystal oscillator is enabled.", 20 VSS (power) "Ground", 21 P1.0/D+ (io) "GPIO Port 1 bit 0 / USB D+", 22 P1.1/D- (io) "GPIO Port 1 bit 1 / USB D-", 23 VCC (power) "Power", 24 P1.2/VREG (io) "GPIO Port 1 bit 2 - Configured individually. 3.3V if regulator is enabled.", 25 P1.3/SSEL (io) "GPIO Port 1 bit 3 - Configured individually. Alternate function is SSEL signal of the SPI bus TTL voltage thresholds", 26 P1.4/SCLK (io) "GPIO Port 1 bit 4 - Configured individually. Alternate function is SCLK signal of the SPI bus TTL voltage thresholds", 27 P1.5/SMOSI (io) "GPIO Port 1 bit 5 - Configured individually. Alternate function is SMOSI signal of the SPI bus TTL voltage thresholds", 28 P1.6/SMISO (io) "GPIO Port 1 bit 6 - Configured individually. Alternate function is SMISO signal of the SPI bus TTL voltage thresholds", 29 P1.7 (io) "GPIO Port 1 bit 7 - Configured individually. TTL voltage threshold.", 30 P3.0 (io) "GPIO Port 3 bit 0 - Configured as a group (byte)", 31 P3.1 (io) "GPIO Port 3 bit 1 - Configured as a group (byte)", 32 P3.2 (io) "GPIO Port 3 bit 2 - Configured as a group (byte)", 33 P3.3 (io) "GPIO Port 3 bit 3 - Configured as a group (byte)", 34 P3.4 (io) "GPIO Port 3 bit 4 - Configured as a group (byte)", 35 P3.5 (io) "GPIO Port 3 bit 5 - Configured as a group (byte)", 36 P3.6 (io) "GPIO Port 3 bit 6 - Configured as a group (byte)", 37 P3.7 (io) "GPIO Port 3 bit 7 - Configured as a group (byte)", 38 P4.2 (io) "GPIO Port 4 bit 2 - Configured as a group (nibble)", 39 P4.3 (io) "GPIO Port 4 bit 3 - Configured as a group (nibble)", 40 VSS (power) "Ground"

## CY7C63923-PVXC
designator U?
enCoRe II, Low-Speed USB Peripheral Controller, 8KB FLASH, 48-Pin SSOP, Commercial Grade, Pb-free; Published: 6-Oct-2005; LatestRevisionDate: 20-Nov-2009; LatestRevisionNote: IPC-7351 Footprint Added.; DatasheetVersion: rev.D, Mar-2005; PackageVersion: Mar-2005; PackageReference: O48; Publisher: Altium Limited; PackageDescription: 48-Pin Small Outline Package 0.635 mm Pitch; Code_JEDEC: MO-118-AA; Code_IPC: SOP635P1035-48; ComponentLink1Description: Manufacturer Link; ComponentLink1URL: http://www.cypress.com/; ComponentLink2Description: Datasheet; ComponentLink2URL: http://www.cypress.com/portal/server.pt/gateway/PTARGS_0_2_1524_209_259_43/http%3B/sjapp20.mis.cypress.com%3B7001/publishedcontent/publish/design_resources/datasheets/contents/cy7c639xx_5.pdf
footprint O48_N (SOP, 48-Leads, Body 15.9x7.5mm, Pitch 0.635mm, IPC Medium Density)
footprint O48_L (SOP, 48-Leads, Body 15.9x7.5mm, Pitch 0.635mm, IPC High Density)
footprint O48_M (SOP, 48-Leads, Body 15.9x7.5mm, Pitch 0.635mm, IPC Low Density)
pins: 1 NC "No connect", 2 NC "No connect", 3 NC "No connect", 4 NC "No connect", 5 VCC (power) "Power", 6 P4.1 (io) "GPIO Port 4 bit 1 - Configured as a group (nibble)", 7 P4.0 (io) "GPIO Port 4 bit 0 - Configured as a group (nibble)", 8 P2.7 (io) "GPIO Port 2 bit 7 - Configured as a group (byte)", 9 P2.6 (io) "GPIO Port 2 bit 6 - Configured as a group (byte)", 10 P2.5 (io) "GPIO Port 2 bit 5 - Configured as a group (byte)", 11 P2.4 (io) "GPIO Port 2 bit 4 - Configured as a group (byte)", 12 P2.3 (io) "GPIO Port 2 bit 3 - Configured as a group (byte)", 13 P2.2 (io) "GPIO Port 2 bit 2 - Configured as a group (byte)", 14 P2.1 (io) "GPIO Port 2 bit 1 - Configured as a group (byte)", 15 P2.0 (io) "GPIO Port 2 bit 0 - Configured as a group (byte)", 16 P0.7 (io) "GPIO port 0 bit 7 - Configured individually Not in 16 pin PDIP or SOIC package", 17 P0.6/TIO1 (io) "GPIO port 0 bit 6 - Configured individually Alternate function Timer capture inputs or Timer output TIO1", 18 P0.5/TIO0 (io) "GPIO port 0 bit 5 - Configured individually Alternate function Timer capture inputs or Timer output TIO0", 19 P0.4/INT2 (io) "GPIO port 0 bit 4 - Configured individually Optional rising edge interrupt INT2", 20 P0.3/INT1 (io) "GPIO port 0 bit 3 - Configured individually Optional rising edge interrupt INT1", 21 P0.2/INT0 (io) "GPIO port 0 bit 2 - Configured individually Optional rising edge interrupt INT0", 22 P0.1/CLKOUT (io) "GPIO Port 0 bit 1 - Configured individually. Optional Clock Out when external crystal oscillator is disabled or crystal output drive when external crystal oscillator is enabled.", 23 VSS (power) "Ground", 24 P0.0/CLKIN (io) "GPIO Port 0 bit 0 - Configured individually. Optional Clock In when external crystal oscillator is disabled or crystal input when external crystal oscillator is enabled.", 25 P1.0/D+ (io) "GPIO Port 1 bit 0 / USB D+", 26 P1.1/D- (io) "GPIO Port 1 bit 1 / USB D-", 27 VCC (power) "Power", 28 P1.2/VREG (io) "GPIO Port 1 bit 2 - Configured individually. 3.3V if regulator is enabled.", 29 P1.3/SSEL (io) "GPIO Port 1 bit 3 - Configured individually. Alternate function is SSEL signal of the SPI bus TTL voltage thresholds", 30 P1.4/SCLK (io) "GPIO Port 1 bit 4 - Configured individually. Alternate function is SCLK signal of the SPI bus TTL voltage thresholds", 31 P1.5/SMOSI (io) "GPIO Port 1 bit 5 - Configured individually. Alternate function is SMOSI signal of the SPI bus TTL voltage thresholds", 32 P1.6/SMISO (io) "GPIO Port 1 bit 6 - Configured individually. Alternate function is SMISO signal of the SPI bus TTL voltage thresholds", 33 P1.7 (io) "GPIO Port 1 bit 7 - Configured individually. TTL voltage threshold.", 34 P3.0 (io) "GPIO Port 3 bit 0 - Configured as a group (byte)", 35 P3.1 (io) "GPIO Port 3 bit 1 - Configured as a group (byte)", 36 P3.2 (io) "GPIO Port 3 bit 2 - Configured as a group (byte)", 37 P3.3 (io) "GPIO Port 3 bit 3 - Configured as a group (byte)", 38 P3.4 (io) "GPIO Port 3 bit 4 - Configured as a group (byte)", 39 P3.5 (io) "GPIO Port 3 bit 5 - Configured as a group (byte)", 40 P3.6 (io) "GPIO Port 3 bit 6 - Configured as a group (byte)", 41 P3.7 (io) "GPIO Port 3 bit 7 - Configured as a group (byte)", 42 P4.2 (io) "GPIO Port 4 bit 2 - Configured as a group (nibble)", 43 P4.3 (io) "GPIO Port 4 bit 3 - Configured as a group (nibble)", 44 VSS (power) "Ground", 45 NC "No connect", 46 NC "No connect", 47 NC "No connect", 48 NC "No connect"